# EAGLE library part LV3842 (library omcPwrSupply)
TI - LV3842 4-V to 36-V, 600-mA, Synchronous Step-Down Converter 600-mA continuous output current Operating input voltage from 4V to 36V Output voltage adjustable from 1V to 34V 98% maximum duty cycle 1.1-MHz switching frequency TI Datasheet <https://www.ti.com/lit/ds/symlink/lv3842.pdf>
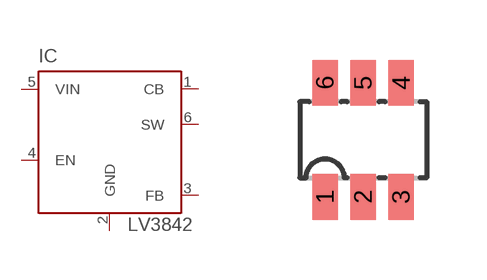
[diagram p10: symbol with the pads of SOT23-6; footprint SOT23-6]

Designator prefix IC

## LV3842 (VALUE: LV3842XF; VENDOR#: TI,LV3842XFDBVR)  [SOT23-6]
1  CB  pas
2  GND  pwr
3  FB  pas
4  EN  pas
5  VIN  pwr
6  SW  out

## Footprint SOT23-6 (pad centres in mm)
SOT23 6-lead Package SOT23-6, SOT-23/6 Technology: SMD Mechanical reference <http://www.vishay.com/docs/72821/72821.pdf> (Vishay)
smd 0.635 x 1.143: 1 -0.953,-1.429; 2 0,-1.429; 3 0.953,-1.429; 4 0.953,1.429; 5 0,1.429; 6 -0.953,1.429